# EAGLE library part OPA2380AIDGKR (library RoboJackets-ICs)
Transimpedance Amplifier 2 Circuit 8-VSSOP Digikey <https://www.digikey.com/product-detail/en/texas-instruments/OPA2380AIDGKR/296-48627-1-ND/8567671>
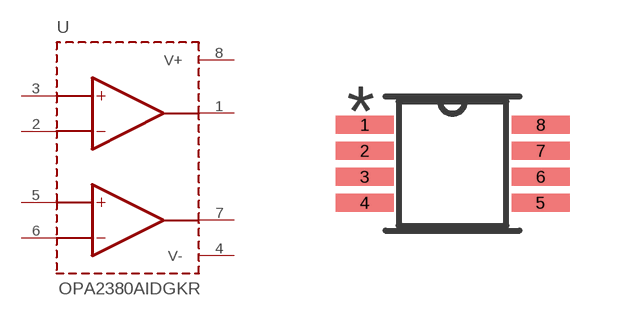
[diagram p45: symbol with the pads of 8-VSSOP; footprint 8-VSSOP]

Designator prefix U

## OPA2380AIDGKR (DKPN: 296-48627-1-ND)  [8-VSSOP]
1  OUTA  pas
2  INA-  pas
3  INA+  pas
4  V-  pas
5  INB+  pas
6  INB-  pas
7  OUTB  pas
8  V+  pas

## Footprint 8-VSSOP (pad centres in mm)
smd 1.45 x 0.45: 1 -2.2,0.975; 2 -2.2,0.325; 3 -2.2,-0.325; 4 -2.2,-0.975; 5 2.2,-0.975; 6 2.2,-0.325; 7 2.2,0.325; 8 2.2,0.975